# Altium schematic symbol library NCE6005AR_Mosfet_N.SchLib: 1 symbol
Pins are listed as number, name and electrical type; pins without a type are passive.

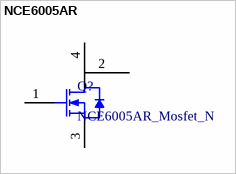
[diagram p0: symbol NCE6005AR]

## NCE6005AR
designator Q?, comment NCE6005AR_Mosfet_N
footprint PCBComponent_1
pins: 1 G, 2 D, 3 S, 4 D